# EAGLE library part WAVEFORM-MIXER-3364 (library XM8)
Xonik voltage controlled waveshape mixer with pulse cv output NB: not +/-15V compatible, use +/-12V only!
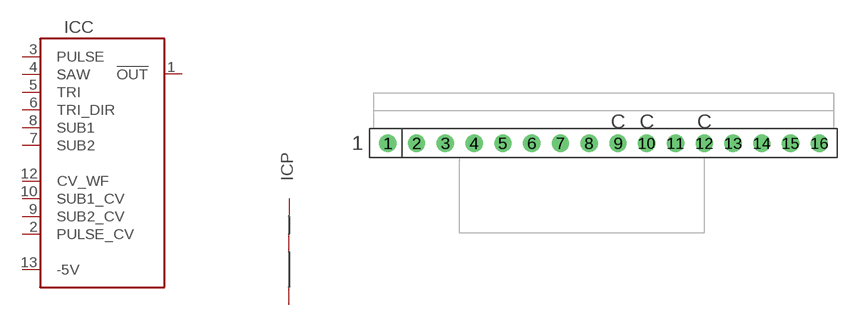
[diagram p17: symbol with the pads of XM8-WAVEFORM-MIXER-3364-V; footprint XM8-WAVEFORM-MIXER-3364-V]

Designator prefix IC; gates P=XM8-PWR C=XM8-WAVEFORM-MIXER-3364-V1.0

## WAVEFORM-MIXER-3364  [XM8-WAVEFORM-MIXER-3364-V]
1  C:!OUT
2  C:PULSE_CV
3  C:PULSE
4  C:SAW
5  C:TRI
6  C:TRI_DIR
7  C:SUB2
8  C:SUB1
9  C:SUB2_CV
10  C:SUB1_CV
12  C:CV_WF
13  C:-5V
14  P:-V  pwr
15  P:+V  pwr
16  P:AGND  pwr

## Footprint XM8-WAVEFORM-MIXER-3364-V (pad centres in mm)
Xonik 4 channel waveform mixer with CV generation (AS3364), vertical mount
drill 1.016: 1 -19.05,0; 2 -16.51,0; 3 -13.97,0; 4 -11.43,0; 5 -8.89,0; 6 -6.35,0; 7 -3.81,0; 8 -1.27,0; 9 1.27,0; 10 3.81,0; 11 6.35,0; 12 8.89,0; 13 11.43,0; 14 13.97,0; 15 16.51,0; 16 19.05,0